# Altium footprint library KEYSTONE_1299.PcbLib: 1 footprints
Each footprint in its own frame and in the unit in brackets; x right, y up, seen from the top. Pads: shape width x height; smd on the part's side, far side on the other; paste and mask are expansions set on the pad; w line width, h text height; cw(c..) or ccw(c..) is an arc to the next point about the centre after c.
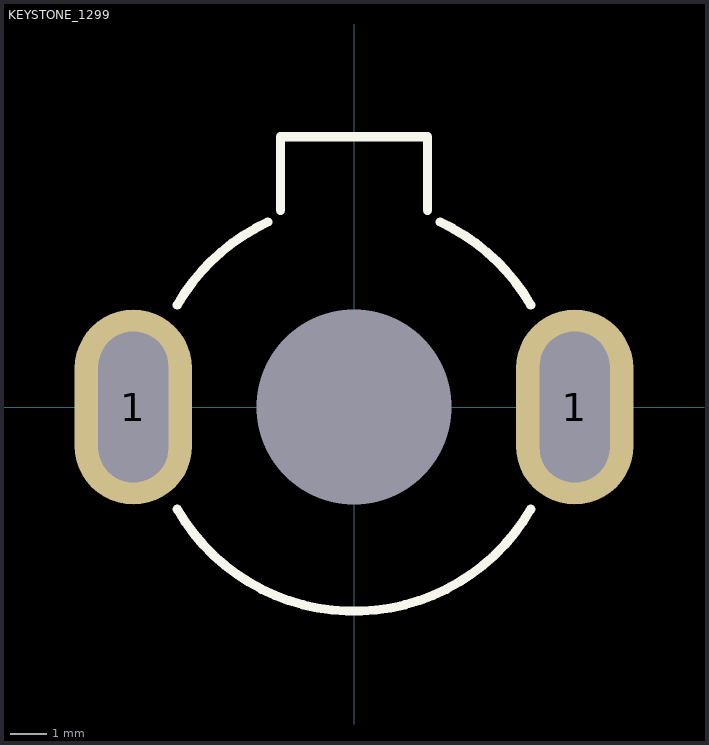
[diagram p0: the footprint, top view; thin cyan lines are the x and y axes]

## KEYSTONE_1299 [mm]
pads (3):
  round 0 hole 5.3 unplated mask+0.05: 0(0,0)
  oval 3.2x5.3 hole 1.9 slot 4.1 at 90 deg mask+0.05: 1(-6,0) 1(6,0)
Top Overlay:
  lines w0.25: -4.807,-2.775 ccw(c0,0) 4.807,-2.775 ; -4.807,2.775 cw(c0,0) -2.346,5.03 ; -2,5.35 -2,7.35 2,7.35 2,5.35 ; 2.346,5.03 cw(c0,0) 4.807,2.775